# EAGLE library part P6 (library dslparts)
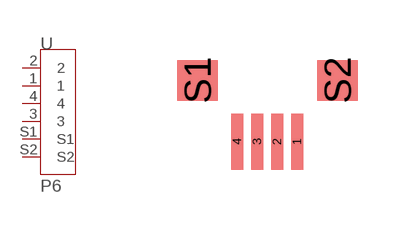
[diagram p6: symbol with the pads of P6; footprint P6]

Designator prefix -

## P6  [P6]
1  1
2  2
3  3
4  4
S1  S1
S2  S2

## Footprint P6 (pad centres in mm)
smd 0.3 x 1.397: 1 0.5,-1; 2 0,-1; 3 -0.5,-1; 4 -1,-1
smd 1.016 x 1.016: S1 -2,0.533; S2 1.5,0.533